# EAGLE library part SPI_PIN6 (library Pocket_Beagle_Pinout)
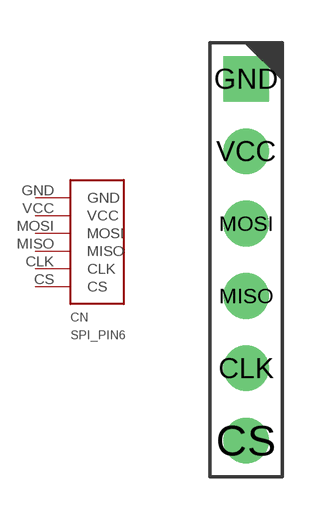
[diagram p6: symbol with the pads of SPI_PIN6; footprint SPI_PIN6]

Designator prefix CN

## SPI_PIN6  [SPI_PIN6]
CLK  CLK
CS  CS
GND  GND
MISO  MISO
MOSI  MOSI
VCC  VCC

## Footprint SPI_PIN6 (pad centres in mm)
drill 0.8 pad 1.6: CLK 0,-6.35; CS 0,-8.89; MISO 0,-3.81; MOSI 0,-1.27; VCC 0,1.27
drill 0.8 pad 1.6 square: GND 0,3.81